# EAGLE library part BOURNS-SWITCH (library Eagle3D-Encoder)
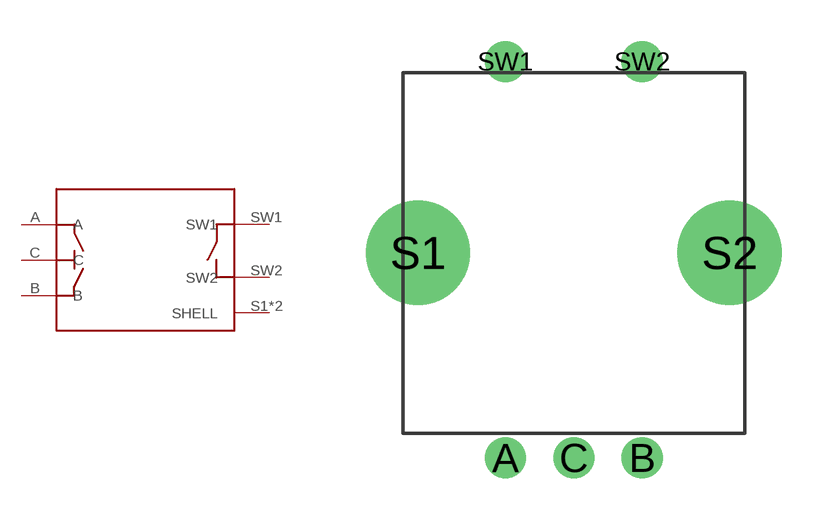
[diagram p0: symbol with the pads of BOURNS-PEC11-SWITCH; footprint BOURNS-PEC11-SWITCH]

Designator prefix -

## BOURNS-SWITCH  [BOURNS-PEC11-SWITCH]
A  A
B  B
C  C
S1  SHELL
S2  SHELL
SW1  SW1
SW2  SW2

## Footprint BOURNS-PEC11-SWITCH (pad centres in mm)
Bourns PEC11 Series Quadrature Rotary Encoder 24CPR - 96PPR With Switch
drill 1: A -2.5,-7.5; B 2.5,-7.5; C 0,-7.5; SW1 -2.5,7; SW2 2.5,7
drill 2.8: S1 -5.7,0; S2 5.7,0